# Altium footprint library VH-JST_3.96mm.PcbLib: 9 footprints
Each footprint in its own frame and in the unit in brackets; x right, y up, seen from the top. Pads: shape width x height; smd on the part's side, far side on the other; paste and mask are expansions set on the pad; w line width, h text height; cw(c..) or ccw(c..) is an arc to the next point about the centre after c.
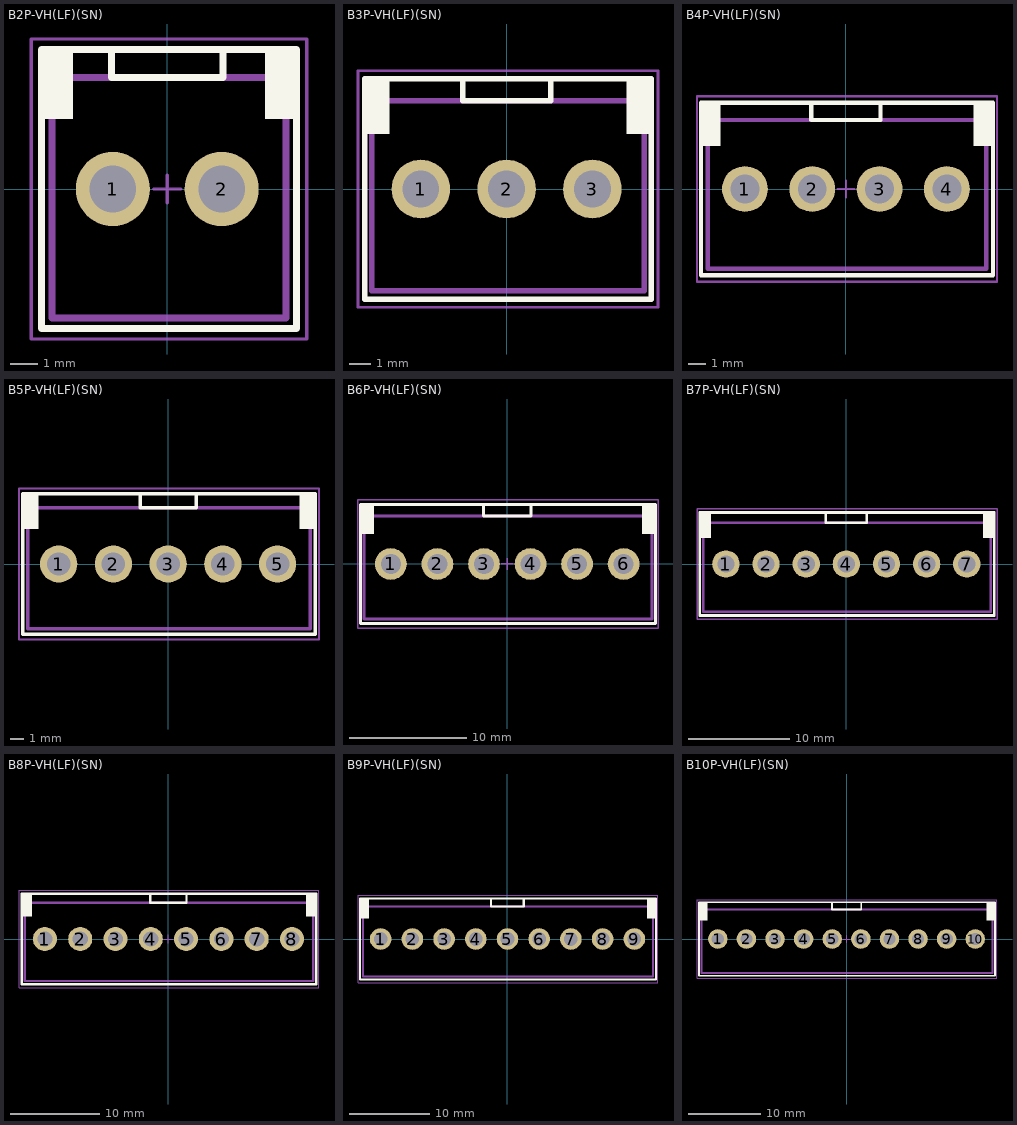
[diagram p0: the footprints below, top view; thin cyan lines are the x and y axes]

## B2P-VH(LF)(SN) [mm]
pads (2):
  round 2.7 hole 1.7: 1(-1.98,0) 2(1.98,0)
Top Overlay:
  rectangle: 3.556,2.54 4.699,5.08
  rectangle: -4.572,2.54 -3.429,5.08
  lines w0.254: -2.032,5.08 -2.032,4.064 2.032,4.064 2.032,5.08 ; -4.572,-5.08 -4.572,5.08 4.699,5.08 4.699,-5.08 -4.572,-5.08
Mechanical 1:
  lines w0.254: -4.191,-4.699 -4.191,4.064 4.318,4.064 4.318,-4.699 -4.191,-4.699
Top Courtyard:
  lines w0.127: -0.5,0 0.5,0 ; 0,-0.5 0,0.5
Top Designator:
  text ".Designator" at -5.998,-0.4 h1.2
Mechanical 15:
  lines w0.127: -4.953,-5.461 -4.953,5.461 5.08,5.461 5.08,-5.461 -4.953,-5.461
3D body "JST - VH - Thru (V) - 2Pin - 3.96mm.stp": height 10.36, standoff -3.96, extent -4.226,-4.648 4.33,4.039

## B3P-VH(LF)(SN) [mm]
pads (3):
  round 2.7 hole 1.7: 1(-3.96,0) 2(0,0) 3(3.96,0)
Top Overlay:
  rectangle: -6.552,2.54 -5.409,5.08
  rectangle: 5.536,2.54 6.679,5.08
  lines w0.254: -2.032,5.08 -2.032,4.064 2.032,4.064 2.032,5.08 ; -6.552,-5.08 6.679,-5.08 6.679,5.08 -6.552,5.08 -6.552,-5.08
Mechanical 1:
  lines w0.254: -6.223,-4.699 -6.223,4.064 6.35,4.064 6.35,-4.699 -6.223,-4.699
Top Courtyard:
  lines w0.127: -0.5,0 0.5,0 ; 0,-0.5 0,0.5
Top Designator:
  text ".Designator" at -5.998,-0.4 h1.2
Mechanical 15:
  lines w0.127: -6.858,-5.461 -6.858,5.461 6.985,5.461 6.985,-5.461 -6.858,-5.461
3D body "JST - VH - Thru (V) - 3Pin - 3.96mm.stp": height 10.36, standoff -3.96, extent -6.258,-4.648 6.258,4.039

## B4P-VH(LF)(SN) [mm]
pads (4):
  round 2.7 hole 1.7: 1(-5.94,0) 2(-1.98,0) 3(1.98,0) 4(5.94,0)
Top Overlay:
  rectangle: 7.516,2.54 8.659,5.08
  rectangle: -8.532,2.54 -7.389,5.08
  lines w0.254: -8.532,5.08 -8.532,-5.08 8.636,-5.08 ; -8.509,5.08 8.636,5.08 ; -2.032,5.08 -2.032,4.064 2.032,4.064 2.032,5.08 ; 8.659,-5.08 8.659,5.08
Mechanical 1:
  lines w0.254: -8.128,-4.699 -8.128,4.064 8.255,4.064 8.255,-4.699 -8.128,-4.699
Top Courtyard:
  lines w0.127: -0.5,0 0.5,0 ; 0,-0.5 0,0.5
Top Designator:
  text ".Designator" at -5.998,-0.4 h1.2
Mechanical 15:
  lines w0.127: -8.763,-5.461 8.89,-5.461 8.89,5.461 -8.763,5.461 -8.763,-5.461
3D body "JST - VH - Thru (V) - 4Pin - 3.96mm.stp": height 10.36, standoff -3.96, extent -8.238,-4.648 8.238,4.039

## B5P-VH(LF)(SN) [mm]
pads (5):
  round 2.7 hole 1.7: 1(-7.92,0) 2(-3.96,0) 3(0,0) 4(3.96,0) 5(7.92,0)
Top Overlay:
  rectangle: 9.496,2.54 10.639,5.08
  rectangle: -10.512,2.54 -9.369,5.08
  lines w0.254: -2.032,5.08 -2.032,4.064 2.032,4.064 2.032,5.08 ; -10.512,-5.08 10.639,-5.08 10.639,5.08 -10.512,5.08 -10.512,-5.08
Mechanical 1:
  lines w0.254: -10.16,-4.699 10.287,-4.699 10.287,4.064 -10.16,4.064 -10.16,-4.699
Top Courtyard:
  lines w0.127: -0.5,0 0.5,0 ; 0,-0.5 0,0.5
Top Designator:
  text ".Designator" at -5.998,-0.4 h1.2
Mechanical 15:
  lines w0.127: -10.795,-5.461 10.922,-5.461 10.922,5.461 -10.795,5.461 -10.795,-5.461
3D body "JST - VH - Thru (V) - 5Pin - 3.96mm.stp": height 10.36, standoff -3.96, extent -10.218,-4.648 10.218,4.039

## B6P-VH(LF)(SN) [mm]
pads (6):
  round 2.7 hole 1.7: 1(-9.9,0) 2(-5.94,0) 3(-1.98,0) 4(1.98,0) 5(5.94,0) 6(9.9,0)
Top Overlay:
  rectangle: -12.492,2.54 -11.349,5.08
  rectangle: 11.476,2.54 12.619,5.08
  lines w0.254: -2.032,5.08 -2.032,4.064 2.032,4.064 2.032,5.08 ; 12.573,-5.08 -12.492,-5.08 -12.492,5.08 12.573,5.08 ; 12.619,-5.08 12.619,5.08
Mechanical 1:
  lines w0.254: -12.192,-4.699 12.319,-4.699 12.319,4.064 -12.192,4.064 -12.192,-4.699
Top Courtyard:
  lines w0.127: -0.5,0 0.5,0 ; 0,-0.5 0,0.5
Top Designator:
  text ".Designator" at -5.998,-0.4 h1.2
Mechanical 15:
  lines w0.127: -12.7,-5.461 12.827,-5.461 12.827,5.461 -12.7,5.461 -12.7,-5.461
3D body "JST - VH - Thru (V) - 6Pin - 3.96mm.stp": height 10.36, standoff -3.96, extent -12.198,-4.648 12.198,4.039

## B7P-VH(LF)(SN) [mm]
pads (7):
  round 2.7 hole 1.7: 1(-11.88,0) 2(-7.92,0) 3(-3.96,0) 4(0,0) 5(3.96,0) 6(7.92,0) 7(11.88,0)
Top Overlay:
  rectangle: -14.472,2.54 -13.329,5.08
  rectangle: 13.456,2.54 14.599,5.08
  lines w0.254: -2.032,5.08 -2.032,4.064 2.032,4.064 2.032,5.08 ; 14.599,5.08 14.599,-5.08 -14.472,-5.08 -14.472,5.08 14.605,5.08
Mechanical 1:
  lines w0.254: -14.097,-4.699 14.224,-4.699 14.224,4.064 -14.097,4.064 -14.097,-4.699
Top Courtyard:
  lines w0.127: -0.5,0 0.5,0 ; 0,-0.5 0,0.5
Top Designator:
  text ".Designator" at -5.998,-0.4 h1.2
Mechanical 15:
  lines w0.127: -14.732,-5.461 14.859,-5.461 14.859,5.461 -14.732,5.461 -14.732,-5.461
3D body "JST - VH - Thru (V) - 7Pin - 3.96mm.stp": height 10.36, standoff -3.96, extent -14.178,-4.648 14.178,4.039

## B8P-VH(LF)(SN) [mm]
pads (8):
  round 2.7 hole 1.7: 1(-13.86,0) 2(-9.9,0) 3(-5.94,0) 4(-1.98,0) 5(1.98,0) 6(5.94,0) 7(9.9,0) 8(13.86,0)
Top Overlay:
  rectangle: 15.436,2.54 16.579,5.08
  rectangle: -16.452,2.54 -15.309,5.08
  lines w0.254: -2.032,5.08 -2.032,4.064 2.032,4.064 2.032,5.08 ; 16.51,5.08 -16.452,5.08 -16.452,-5.08 16.579,-5.08 16.579,5.08
Mechanical 1:
  lines w0.254: -16.129,-4.699 16.256,-4.699 16.256,4.064 -16.129,4.064 -16.129,-4.699
Top Courtyard:
  lines w0.127: -0.5,0 0.5,0 ; 0,-0.5 0,0.5
Top Designator:
  text ".Designator" at -5.998,-0.4 h1.2
Mechanical 15:
  lines w0.127: -16.764,-5.461 16.891,-5.461 16.891,5.461 -16.764,5.461 -16.764,-5.461
3D body "JST - VH - Thru (V) - 8Pin - 3.96mm.stp": height 10.36, standoff -3.96, extent -16.158,-4.648 16.158,4.039

## B9P-VH(LF)(SN) [mm]
pads (9):
  round 2.7 hole 1.7: 1(-15.84,0) 2(-11.88,0) 3(-7.92,0) 4(-3.96,0) 5(0,0) 6(3.96,0) 7(7.92,0) 8(11.88,0) 9(15.84,0)
Top Overlay:
  rectangle: 17.416,2.54 18.559,5.08
  rectangle: -18.432,2.54 -17.289,5.08
  lines w0.254: -2.032,5.08 -2.032,4.064 2.032,4.064 2.032,5.08 ; -18.432,-5.08 -18.432,5.08 18.559,5.08 18.559,-5.08 -18.432,-5.08
Mechanical 1:
  lines w0.254: -18.034,-4.699 -18.034,4.064 18.161,4.064 18.161,-4.699 -18.034,-4.699
Top Courtyard:
  lines w0.127: -0.5,0 0.5,0 ; 0,-0.5 0,0.5
Top Designator:
  text ".Designator" at -5.998,-0.4 h1.2
Mechanical 15:
  lines w0.127: -18.669,-5.461 18.796,-5.461 18.796,5.461 -18.669,5.461 -18.669,-5.461
3D body "JST - VH - Thru (V) - 9Pin - 3.96mm.stp": height 10.36, standoff -3.96, extent -18.138,-4.648 18.138,4.039

## B10P-VH(LF)(SN) [mm]
pads (10):
  round 2.7 hole 1.7: 1(-17.82,0) 2(-13.86,0) 3(-9.9,0) 4(-5.94,0) 5(-1.98,0) 6(1.98,0) 7(5.94,0) 8(9.9,0) 9(13.86,0) 10(17.82,0)
Top Overlay:
  rectangle: -20.412,2.54 -19.269,5.08
  rectangle: 19.396,2.54 20.539,5.08
  lines w0.254: -2.032,5.08 -2.032,4.064 2.032,4.064 2.032,5.08 ; -20.412,-5.08 20.539,-5.08 20.539,5.08 -20.412,5.08 -20.412,-5.08
Mechanical 1:
  lines w0.254: -20.066,-4.699 -20.066,4.064 20.193,4.064 20.193,-4.699 -20.066,-4.699
Top Courtyard:
  lines w0.127: -0.5,0 0.5,0 ; 0,-0.5 0,0.5
Top Designator:
  text ".Designator" at -5.998,-0.4 h1.2
Mechanical 15:
  lines w0.127: -20.701,-5.461 20.828,-5.461 20.828,5.461 -20.701,5.461 -20.701,-5.461
3D body "JST - VH - Thru (V) - 10Pin - 3.96mm.stp": height 10.36, standoff -3.96, extent -20.118,-4.648 20.118,4.039